# EAGLE library part TLC5940 (library 1dah)
16-ch 100mA/channel current control LED driver
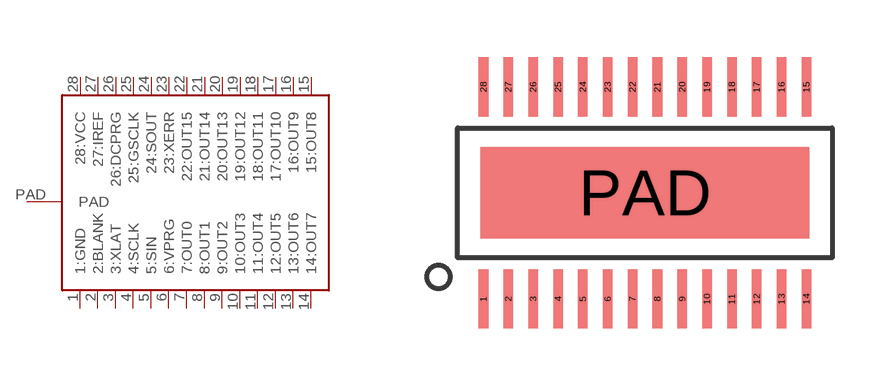
[diagram p33: symbol with the pads of HTSSOP-28; footprint HTSSOP-28]

Designator prefix -

## TLC5940  [HTSSOP-28]
1  1:GND
2  2:BLANK
3  3:XLAT
4  4:SCLK
5  5:SIN
6  6:VPRG
7  7:OUT0
8  8:OUT1
9  9:OUT2
10  10:OUT3
11  11:OUT4
12  12:OUT5
13  13:OUT6
14  14:OUT7
15  15:OUT8
16  16:OUT9
17  17:OUT10
18  18:OUT11
19  19:OUT12
20  20:OUT13
21  21:OUT14
22  22:OUT15
23  23:XERR
24  24:SOUT
25  25:GSCLK
26  26:DCPRG
27  27:IREF
28  28:VCC
PAD  PAD

## Footprint HTSSOP-28 (pad centres in mm)
smd 0.25 x 1.55: 1 -4.225,-2.775; 2 -3.575,-2.775; 3 -2.925,-2.775; 4 -2.275,-2.775; 5 -1.625,-2.775; 6 -0.975,-2.775; 7 -0.325,-2.775; 8 0.325,-2.775; 9 0.975,-2.775; 10 1.625,-2.775; 11 2.275,-2.775; 12 2.925,-2.775; 13 3.575,-2.775; 14 4.225,-2.775; 15 4.225,2.775; 16 3.575,2.775; 17 2.925,2.775; 18 2.275,2.775; 19 1.625,2.775; 20 0.975,2.775; 21 0.325,2.775; 22 -0.325,2.775; 23 -0.975,2.775; 24 -1.625,2.775; 25 -2.275,2.775; 26 -2.925,2.775; 27 -3.575,2.775; 28 -4.225,2.775
smd 8.6 x 2.4: PAD 0,0